# Altium footprint library HLib_connector_fp.PcbLib: 41 footprints (part 1 of 3)
Each footprint in its own frame and in the unit in brackets; x right, y up, seen from the top. Pads: shape width x height; smd on the part's side, far side on the other; paste and mask are expansions set on the pad; w line width, h text height; cw(c..) or ccw(c..) is an arc to the next point about the centre after c.
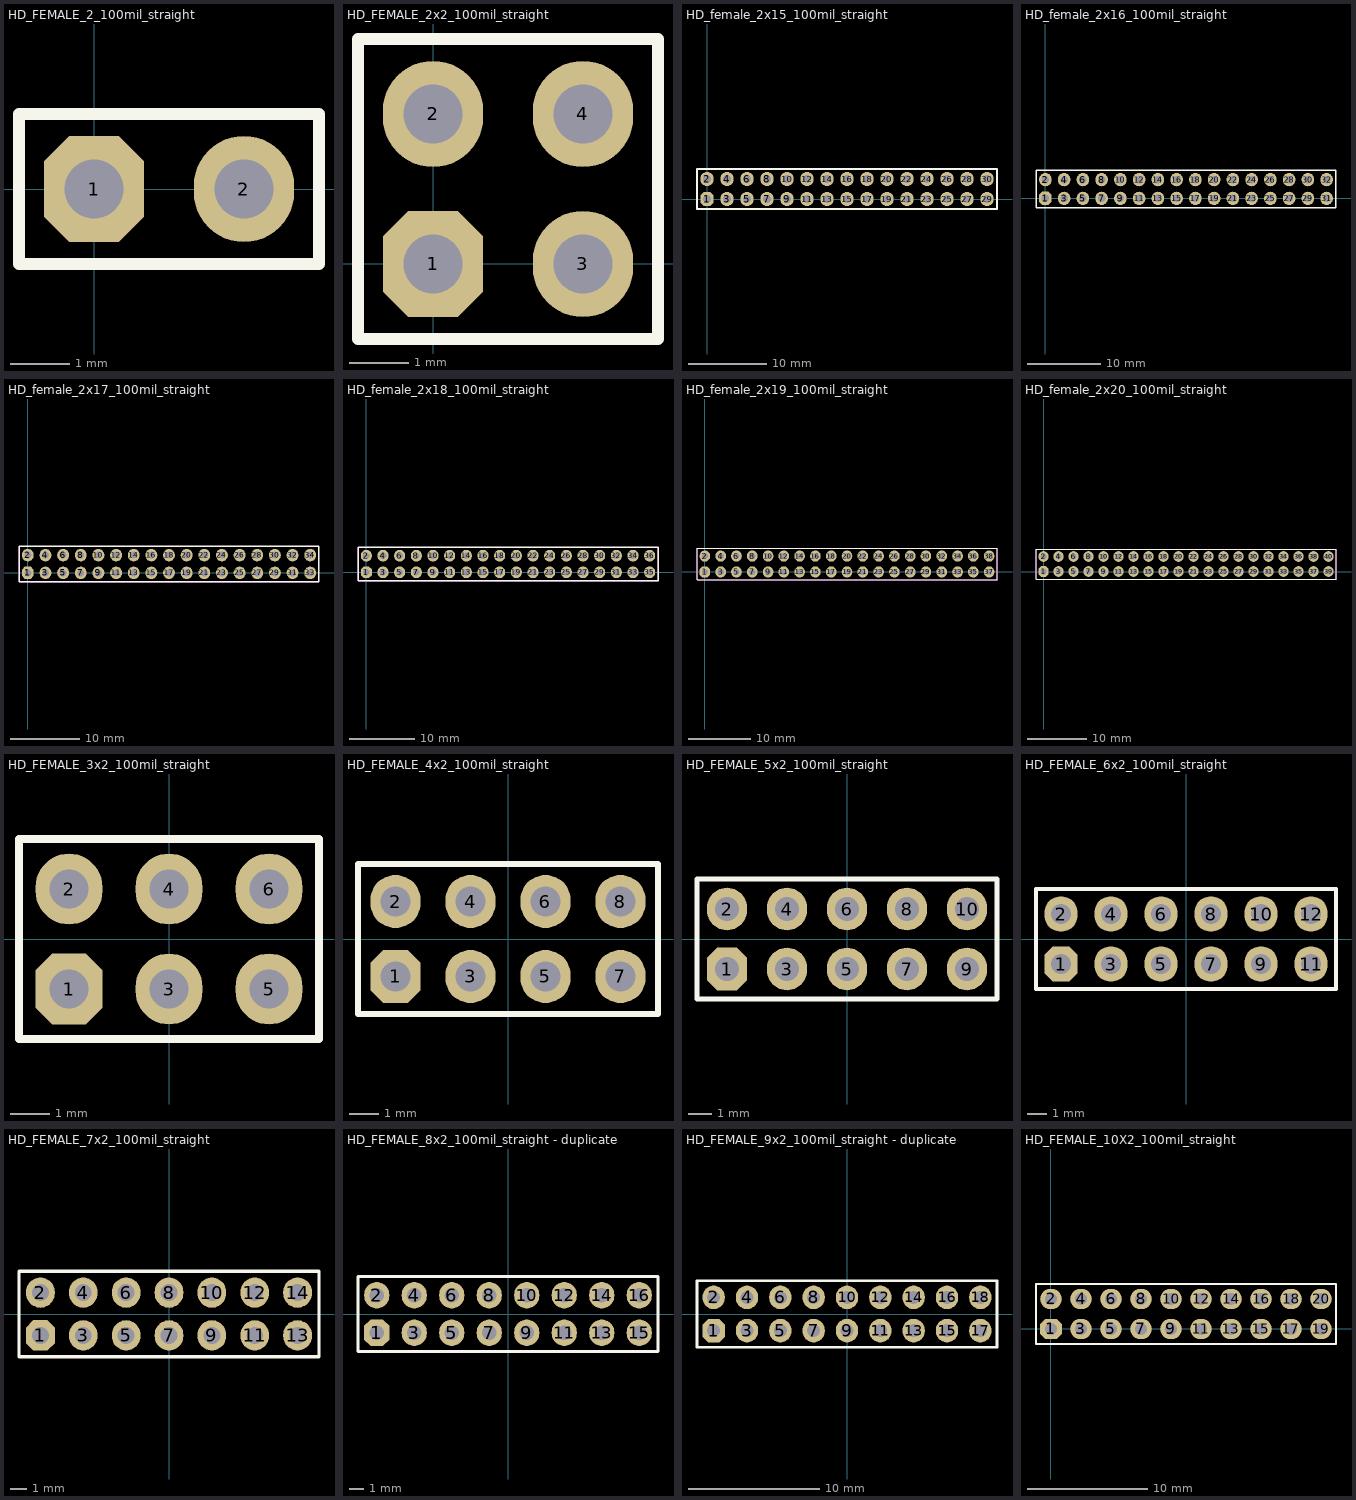
[diagram p0: the footprints below, top view; thin cyan lines are the x and y axes]

## HD_FEMALE_2_100mil_straight [mm]
pads (2):
  oct 1.7x1.8 hole 1: 1(0,0)
  oval 1.7x1.8 hole 1: 2(2.54,0)
Top Overlay:
  lines w0.2: -1.27,-1.27 -1.27,1.27 3.81,1.27 3.81,-1.27 -1.27,-1.27
Mechanical 15:
  lines w0.1: -1.27,-1.27 -1.27,1.27 3.81,1.27 3.81,-1.27 -1.27,-1.27
3D body: height 8, standoff 0, extent -1.27,0 1.27,1.27
3D body: height 8, standoff 0, extent 1.27,0 3.81,1.27
3D body: height 8, standoff 0, extent 1.27,-1.27 3.81,0
3D body: height 0, standoff -1, extent -0.254,-0.254 0.254,0.254
3D body: height 0, standoff -1, extent 2.286,-0.254 2.794,0.254
3D body: height 8, standoff 0, extent -1.27,-1.27 1.27,0

## HD_FEMALE_2x2_100mil_straight [mm]
pads (4):
  oct 1.7x1.8 hole 1: 1(0,0)
  oval 1.7x1.8 hole 1: 2(0,2.54) 3(2.54,0) 4(2.54,2.54)
Top Overlay:
  lines w0.2: -1.27,-1.27 3.81,-1.27 3.81,3.81 -1.27,3.81 -1.27,-1.27
Mechanical 15:
  lines w0.1: -1.27,-1.27 3.81,-1.27 3.81,3.81 -1.27,3.81 -1.27,-1.27
3D body: height 0, standoff -1, extent 2.286,-0.254 2.794,0.254
3D body: height 0, standoff -1, extent 2.286,2.286 2.794,2.794
3D body: height 0, standoff -1, extent -0.254,-0.254 0.254,0.254
3D body: height 0, standoff -1, extent -0.254,-0.254 0.254,0.254
3D body: height 0, standoff -1, extent 2.286,-0.254 2.794,0.254
3D body: height 0, standoff -1, extent -0.254,2.286 0.254,2.794
3D body: height 8, standoff 0, extent -1.27,-1.27 0,3.81
3D body: height 8, standoff 0, extent 1.27,-1.27 2.54,3.81
3D body: height 8, standoff 0, extent 2.54,-1.27 3.81,3.81
3D body: height 8, standoff 0, extent 0,-1.27 1.27,3.81

## HD_female_2x15_100mil_straight [mm]
pads (30):
  oct 1.7x1.8 hole 1: 1(0,0)
  oval 1.7x1.8 hole 1: 2(0,2.54) 3(2.54,0) 4(2.54,2.54) 5(5.08,0) 6(5.08,2.54) 7(7.62,0) 8(7.62,2.54) 9(10.16,0) 10(10.16,2.54) 11(12.7,0) 12(12.7,2.54) 13(15.24,0) 14(15.24,2.54) 15(17.78,0) 16(17.78,2.54) 17(20.32,0) 18(20.32,2.54) 19(22.86,0) 20(22.86,2.54) 21(25.4,0) 22(25.4,2.54) 23(27.94,0) 24(27.94,2.54) 25(30.48,0) 26(30.48,2.54) 27(33.02,0) 28(33.02,2.54) 29(35.56,0) 30(35.56,2.54)
Top Overlay:
  lines w0.2: -1.27,-1.27 -1.27,3.81 11.43,3.81 24.13,3.81 36.83,3.81 36.83,-1.27 24.13,-1.27 11.43,-1.27 -1.27,-1.27
Mechanical 15 keep-out:
  lines w0.1: -1.27,-1.27 -1.27,3.81 11.43,3.81 24.13,3.81 36.83,3.81 36.83,-1.27 24.13,-1.27 11.43,-1.27 -1.27,-1.27
3D body: height 8, standoff 0, extent 22.86,-1.27 24.13,3.81
3D body: height 8, standoff 0, extent 20.32,-1.27 21.59,3.81
3D body: height 8, standoff 0, extent 17.78,-1.27 19.05,3.81
3D body: height 8, standoff 0, extent 15.24,-1.27 16.51,3.81
3D body: height 8, standoff 0, extent 12.7,-1.27 13.97,3.81
3D body: height 8, standoff 0, extent 21.59,-1.27 22.86,3.81
3D body: height 8, standoff 0, extent 19.05,-1.27 20.32,3.81
3D body: height 8, standoff 0, extent 16.51,-1.27 17.78,3.81
3D body: height 8, standoff 0, extent 13.97,-1.27 15.24,3.81
3D body: height 8, standoff 0, extent 11.43,-1.27 12.7,3.81
3D body: height 0, standoff -1, extent 22.606,2.286 23.114,2.794
3D body: height 0, standoff -1, extent 22.606,-0.254 23.114,0.254
3D body: height 0, standoff -1, extent 20.066,2.286 20.574,2.794
3D body: height 0, standoff -1, extent 20.066,-0.254 20.574,0.254
3D body: height 0, standoff -1, extent 17.526,2.286 18.034,2.794
3D body: height 0, standoff -1, extent 17.526,-0.254 18.034,0.254
3D body: height 0, standoff -1, extent 14.986,2.286 15.494,2.794
3D body: height 0, standoff -1, extent 14.986,-0.254 15.494,0.254
3D body: height 0, standoff -1, extent 12.446,2.286 12.954,2.794
3D body: height 0, standoff -1, extent 12.446,-0.254 12.954,0.254
3D body: height 8, standoff 0, extent 10.16,-1.27 11.43,3.81
3D body: height 8, standoff 0, extent 7.62,-1.27 8.89,3.81
3D body: height 8, standoff 0, extent 5.08,-1.27 6.35,3.81
3D body: height 8, standoff 0, extent 2.54,-1.27 3.81,3.81
3D body: height 8, standoff 0, extent 0,-1.27 1.27,3.81
3D body: height 8, standoff 0, extent 8.89,-1.27 10.16,3.81
3D body: height 8, standoff 0, extent 6.35,-1.27 7.62,3.81
3D body: height 8, standoff 0, extent 3.81,-1.27 5.08,3.81
3D body: height 8, standoff 0, extent 1.27,-1.27 2.54,3.81
3D body: height 8, standoff 0, extent -1.27,-1.27 0,3.81
3D body: height 0, standoff -1, extent 9.906,2.286 10.414,2.794
3D body: height 0, standoff -1, extent 9.906,-0.254 10.414,0.254
3D body: height 0, standoff -1, extent 7.366,2.286 7.874,2.794
3D body: height 0, standoff -1, extent 7.366,-0.254 7.874,0.254
3D body: height 0, standoff -1, extent 4.826,2.286 5.334,2.794
3D body: height 0, standoff -1, extent 4.826,-0.254 5.334,0.254
3D body: height 0, standoff -1, extent 2.286,2.286 2.794,2.794
3D body: height 0, standoff -1, extent 2.286,-0.254 2.794,0.254
3D body: height 0, standoff -1, extent -0.254,2.286 0.254,2.794
3D body: height 0, standoff -1, extent -0.254,-0.254 0.254,0.254
3D body: height 0, standoff -1, extent 25.146,-0.254 25.654,0.254
3D body: height 0, standoff -1, extent 25.146,2.286 25.654,2.794
3D body: height 0, standoff -1, extent 27.686,-0.254 28.194,0.254
3D body: height 0, standoff -1, extent 27.686,2.286 28.194,2.794
3D body: height 0, standoff -1, extent 30.226,-0.254 30.734,0.254
3D body: height 0, standoff -1, extent 30.226,2.286 30.734,2.794
3D body: height 0, standoff -1, extent 32.766,-0.254 33.274,0.254
3D body: height 0, standoff -1, extent 32.766,2.286 33.274,2.794
3D body: height 0, standoff -1, extent 35.306,-0.254 35.814,0.254
3D body: height 0, standoff -1, extent 35.306,2.286 35.814,2.794
3D body: height 8, standoff 0, extent 24.13,-1.27 25.4,3.81
3D body: height 8, standoff 0, extent 26.67,-1.27 27.94,3.81
3D body: height 8, standoff 0, extent 29.21,-1.27 30.48,3.81
3D body: height 8, standoff 0, extent 31.75,-1.27 33.02,3.81
3D body: height 8, standoff 0, extent 34.29,-1.27 35.56,3.81
3D body: height 8, standoff 0, extent 25.4,-1.27 26.67,3.81
3D body: height 8, standoff 0, extent 27.94,-1.27 29.21,3.81
3D body: height 8, standoff 0, extent 30.48,-1.27 31.75,3.81
3D body: height 8, standoff 0, extent 33.02,-1.27 34.29,3.81
3D body: height 8, standoff 0, extent 35.56,-1.27 36.83,3.81

## HD_female_2x16_100mil_straight [mm]
pads (32):
  oct 1.7x1.8 hole 1: 1(0,0)
  oval 1.7x1.8 hole 1: 2(0,2.54) 3(2.54,0) 4(2.54,2.54) 5(5.08,0) 6(5.08,2.54) 7(7.62,0) 8(7.62,2.54) 9(10.16,0) 10(10.16,2.54) 11(12.7,0) 12(12.7,2.54) 13(15.24,0) 14(15.24,2.54) 15(17.78,0) 16(17.78,2.54) 17(20.32,0) 18(20.32,2.54) 19(22.86,0) 20(22.86,2.54) 21(25.4,0) 22(25.4,2.54) 23(27.94,0) 24(27.94,2.54) 25(30.48,0) 26(30.48,2.54) 27(33.02,0) 28(33.02,2.54) 29(35.56,0) 30(35.56,2.54) 31(38.1,0) 32(38.1,2.54)
Top Overlay:
  lines w0.2: -1.27,-1.27 11.43,-1.27 24.13,-1.27 39.37,-1.27 39.37,3.81 24.13,3.81 11.43,3.81 -1.27,3.81 -1.27,-1.27
3D body: height 8, standoff 0, extent 35.56,-1.27 36.83,3.81
3D body: height 8, standoff 0, extent 33.02,-1.27 34.29,3.81
3D body: height 8, standoff 0, extent 30.48,-1.27 31.75,3.81
3D body: height 8, standoff 0, extent 27.94,-1.27 29.21,3.81
3D body: height 8, standoff 0, extent 25.4,-1.27 26.67,3.81
3D body: height 8, standoff 0, extent 34.29,-1.27 35.56,3.81
3D body: height 8, standoff 0, extent 31.75,-1.27 33.02,3.81
3D body: height 8, standoff 0, extent 29.21,-1.27 30.48,3.81
3D body: height 8, standoff 0, extent 26.67,-1.27 27.94,3.81
3D body: height 8, standoff 0, extent 24.13,-1.27 25.4,3.81
3D body: height 0, standoff -1, extent 35.306,2.286 35.814,2.794
3D body: height 0, standoff -1, extent 35.306,-0.254 35.814,0.254
3D body: height 0, standoff -1, extent 32.766,2.286 33.274,2.794
3D body: height 0, standoff -1, extent 32.766,-0.254 33.274,0.254
3D body: height 0, standoff -1, extent 30.226,2.286 30.734,2.794
3D body: height 0, standoff -1, extent 30.226,-0.254 30.734,0.254
3D body: height 0, standoff -1, extent 27.686,2.286 28.194,2.794
3D body: height 0, standoff -1, extent 27.686,-0.254 28.194,0.254
3D body: height 0, standoff -1, extent 25.146,2.286 25.654,2.794
3D body: height 0, standoff -1, extent 25.146,-0.254 25.654,0.254
3D body: height 0, standoff -1, extent -0.254,-0.254 0.254,0.254
3D body: height 0, standoff -1, extent -0.254,2.286 0.254,2.794
3D body: height 0, standoff -1, extent 2.286,-0.254 2.794,0.254
3D body: height 0, standoff -1, extent 2.286,2.286 2.794,2.794
3D body: height 0, standoff -1, extent 4.826,-0.254 5.334,0.254
3D body: height 0, standoff -1, extent 4.826,2.286 5.334,2.794
3D body: height 0, standoff -1, extent 7.366,-0.254 7.874,0.254
3D body: height 0, standoff -1, extent 7.366,2.286 7.874,2.794
3D body: height 0, standoff -1, extent 9.906,-0.254 10.414,0.254
3D body: height 0, standoff -1, extent 9.906,2.286 10.414,2.794
3D body: height 8, standoff 0, extent -1.27,-1.27 0,3.81
3D body: height 8, standoff 0, extent 1.27,-1.27 2.54,3.81
3D body: height 8, standoff 0, extent 3.81,-1.27 5.08,3.81
3D body: height 8, standoff 0, extent 6.35,-1.27 7.62,3.81
3D body: height 8, standoff 0, extent 8.89,-1.27 10.16,3.81
3D body: height 8, standoff 0, extent 0,-1.27 1.27,3.81
3D body: height 8, standoff 0, extent 2.54,-1.27 3.81,3.81
3D body: height 8, standoff 0, extent 5.08,-1.27 6.35,3.81
3D body: height 8, standoff 0, extent 7.62,-1.27 8.89,3.81
3D body: height 8, standoff 0, extent 10.16,-1.27 11.43,3.81
3D body: height 0, standoff -1, extent 12.446,-0.254 12.954,0.254
3D body: height 0, standoff -1, extent 12.446,2.286 12.954,2.794
3D body: height 0, standoff -1, extent 14.986,-0.254 15.494,0.254
3D body: height 0, standoff -1, extent 14.986,2.286 15.494,2.794
3D body: height 0, standoff -1, extent 17.526,-0.254 18.034,0.254
3D body: height 0, standoff -1, extent 17.526,2.286 18.034,2.794
3D body: height 0, standoff -1, extent 20.066,-0.254 20.574,0.254
3D body: height 0, standoff -1, extent 20.066,2.286 20.574,2.794
3D body: height 0, standoff -1, extent 22.606,-0.254 23.114,0.254
3D body: height 0, standoff -1, extent 22.606,2.286 23.114,2.794
3D body: height 8, standoff 0, extent 11.43,-1.27 12.7,3.81
3D body: height 8, standoff 0, extent 13.97,-1.27 15.24,3.81
3D body: height 8, standoff 0, extent 16.51,-1.27 17.78,3.81
3D body: height 8, standoff 0, extent 19.05,-1.27 20.32,3.81
3D body: height 8, standoff 0, extent 21.59,-1.27 22.86,3.81
3D body: height 8, standoff 0, extent 12.7,-1.27 13.97,3.81
3D body: height 8, standoff 0, extent 15.24,-1.27 16.51,3.81
3D body: height 8, standoff 0, extent 17.78,-1.27 19.05,3.81
3D body: height 8, standoff 0, extent 20.32,-1.27 21.59,3.81
3D body: height 8, standoff 0, extent 22.86,-1.27 24.13,3.81
3D body: height 0, standoff -1, extent 37.846,-0.254 38.354,0.254
3D body: height 0, standoff -1, extent 37.846,2.286 38.354,2.794
3D body: height 8, standoff 0, extent 36.83,-1.27 38.1,3.81
3D body: height 8, standoff 0, extent 38.1,-1.27 39.37,3.81

## HD_female_2x17_100mil_straight [mm]
pads (34):
  oct 1.7x1.8 hole 1: 1(0,0)
  oval 1.7x1.8 hole 1: 2(0,2.54) 3(2.54,0) 4(2.54,2.54) 5(5.08,0) 6(5.08,2.54) 7(7.62,0) 8(7.62,2.54) 9(10.16,0) 10(10.16,2.54) 11(12.7,0) 12(12.7,2.54) 13(15.24,0) 14(15.24,2.54) 15(17.78,0) 16(17.78,2.54) 17(20.32,0) 18(20.32,2.54) 19(22.86,0) 20(22.86,2.54) 21(25.4,0) 22(25.4,2.54) 23(27.94,0) 24(27.94,2.54) 25(30.48,0) 26(30.48,2.54) 27(33.02,0) 28(33.02,2.54) 29(35.56,0) 30(35.56,2.54) 31(38.1,0) 32(38.1,2.54) 33(40.64,0) 34(40.64,2.54)
Top Overlay:
  lines w0.2: -1.27,-1.27 -1.27,3.81 11.43,3.81 24.13,3.81 41.91,3.81 41.91,-1.27 24.13,-1.27 11.43,-1.27 -1.27,-1.27
Mechanical 15 keep-out:
  lines w0.1: -1.27,-1.27 -1.27,3.81 11.43,3.81 24.13,3.81 41.91,3.81 41.91,-1.27 24.13,-1.27 11.43,-1.27 -1.27,-1.27
3D body: height 8, standoff 0, extent 22.86,-1.27 24.13,3.81
3D body: height 8, standoff 0, extent 20.32,-1.27 21.59,3.81
3D body: height 8, standoff 0, extent 17.78,-1.27 19.05,3.81
3D body: height 8, standoff 0, extent 15.24,-1.27 16.51,3.81
3D body: height 8, standoff 0, extent 12.7,-1.27 13.97,3.81
3D body: height 8, standoff 0, extent 21.59,-1.27 22.86,3.81
3D body: height 8, standoff 0, extent 19.05,-1.27 20.32,3.81
3D body: height 8, standoff 0, extent 16.51,-1.27 17.78,3.81
3D body: height 8, standoff 0, extent 13.97,-1.27 15.24,3.81
3D body: height 8, standoff 0, extent 11.43,-1.27 12.7,3.81
3D body: height 0, standoff -1, extent 22.606,2.286 23.114,2.794
3D body: height 0, standoff -1, extent 22.606,-0.254 23.114,0.254
3D body: height 0, standoff -1, extent 20.066,2.286 20.574,2.794
3D body: height 0, standoff -1, extent 20.066,-0.254 20.574,0.254
3D body: height 0, standoff -1, extent 17.526,2.286 18.034,2.794
3D body: height 0, standoff -1, extent 17.526,-0.254 18.034,0.254
3D body: height 0, standoff -1, extent 14.986,2.286 15.494,2.794
3D body: height 0, standoff -1, extent 14.986,-0.254 15.494,0.254
3D body: height 0, standoff -1, extent 12.446,2.286 12.954,2.794
3D body: height 0, standoff -1, extent 12.446,-0.254 12.954,0.254
3D body: height 8, standoff 0, extent 10.16,-1.27 11.43,3.81
3D body: height 8, standoff 0, extent 7.62,-1.27 8.89,3.81
3D body: height 8, standoff 0, extent 5.08,-1.27 6.35,3.81
3D body: height 8, standoff 0, extent 2.54,-1.27 3.81,3.81
3D body: height 8, standoff 0, extent 0,-1.27 1.27,3.81
3D body: height 8, standoff 0, extent 8.89,-1.27 10.16,3.81
3D body: height 8, standoff 0, extent 6.35,-1.27 7.62,3.81
3D body: height 8, standoff 0, extent 3.81,-1.27 5.08,3.81
3D body: height 8, standoff 0, extent 1.27,-1.27 2.54,3.81
3D body: height 8, standoff 0, extent -1.27,-1.27 0,3.81
3D body: height 0, standoff -1, extent 9.906,2.286 10.414,2.794
3D body: height 0, standoff -1, extent 9.906,-0.254 10.414,0.254
3D body: height 0, standoff -1, extent 7.366,2.286 7.874,2.794
3D body: height 0, standoff -1, extent 7.366,-0.254 7.874,0.254
3D body: height 0, standoff -1, extent 4.826,2.286 5.334,2.794
3D body: height 0, standoff -1, extent 4.826,-0.254 5.334,0.254
3D body: height 0, standoff -1, extent 2.286,2.286 2.794,2.794
3D body: height 0, standoff -1, extent 2.286,-0.254 2.794,0.254
3D body: height 0, standoff -1, extent -0.254,2.286 0.254,2.794
3D body: height 0, standoff -1, extent -0.254,-0.254 0.254,0.254
3D body: height 0, standoff -1, extent 25.146,-0.254 25.654,0.254
3D body: height 0, standoff -1, extent 25.146,2.286 25.654,2.794
3D body: height 0, standoff -1, extent 27.686,-0.254 28.194,0.254
3D body: height 0, standoff -1, extent 27.686,2.286 28.194,2.794
3D body: height 0, standoff -1, extent 30.226,-0.254 30.734,0.254
3D body: height 0, standoff -1, extent 30.226,2.286 30.734,2.794
3D body: height 0, standoff -1, extent 32.766,-0.254 33.274,0.254
3D body: height 0, standoff -1, extent 32.766,2.286 33.274,2.794
3D body: height 0, standoff -1, extent 35.306,-0.254 35.814,0.254
3D body: height 0, standoff -1, extent 35.306,2.286 35.814,2.794
3D body: height 8, standoff 0, extent 24.13,-1.27 25.4,3.81
3D body: height 8, standoff 0, extent 26.67,-1.27 27.94,3.81
3D body: height 8, standoff 0, extent 29.21,-1.27 30.48,3.81
3D body: height 8, standoff 0, extent 31.75,-1.27 33.02,3.81
3D body: height 8, standoff 0, extent 34.29,-1.27 35.56,3.81
3D body: height 8, standoff 0, extent 25.4,-1.27 26.67,3.81
3D body: height 8, standoff 0, extent 27.94,-1.27 29.21,3.81
3D body: height 8, standoff 0, extent 30.48,-1.27 31.75,3.81
3D body: height 8, standoff 0, extent 33.02,-1.27 34.29,3.81
3D body: height 8, standoff 0, extent 35.56,-1.27 36.83,3.81
3D body: height 8, standoff 0, extent 40.64,-1.27 41.91,3.81
3D body: height 8, standoff 0, extent 38.1,-1.27 39.37,3.81
3D body: height 8, standoff 0, extent 39.37,-1.27 40.64,3.81
3D body: height 8, standoff 0, extent 36.83,-1.27 38.1,3.81
3D body: height 0, standoff -1, extent 40.386,2.286 40.894,2.794
3D body: height 0, standoff -1, extent 40.386,-0.254 40.894,0.254
3D body: height 0, standoff -1, extent 37.846,2.286 38.354,2.794
3D body: height 0, standoff -1, extent 37.846,-0.254 38.354,0.254

## HD_female_2x18_100mil_straight [mm]
pads (36):
  oct 1.7x1.8 hole 1: 1(0,0)
  oval 1.7x1.8 hole 1: 2(0,2.54) 3(2.54,0) 4(2.54,2.54) 5(5.08,0) 6(5.08,2.54) 7(7.62,0) 8(7.62,2.54) 9(10.16,0) 10(10.16,2.54) 11(12.7,0) 12(12.7,2.54) 13(15.24,0) 14(15.24,2.54) 15(17.78,0) 16(17.78,2.54) 17(20.32,0) 18(20.32,2.54) 19(22.86,0) 20(22.86,2.54) 21(25.4,0) 22(25.4,2.54) 23(27.94,0) 24(27.94,2.54) 25(30.48,0) 26(30.48,2.54) 27(33.02,0) 28(33.02,2.54) 29(35.56,0) 30(35.56,2.54) 31(38.1,0) 32(38.1,2.54) 33(40.64,0) 34(40.64,2.54) 35(43.18,0) 36(43.18,2.54)
Top Overlay:
  lines w0.2: -1.27,-1.27 -1.27,3.81 11.43,3.81 24.13,3.81 44.45,3.81 44.45,-1.27 24.13,-1.27 11.43,-1.27 -1.27,-1.27
Mechanical 15 keep-out:
  lines w0.1: -1.27,-1.27 -1.27,3.81 11.43,3.81 24.13,3.81 44.45,3.81 44.45,-1.27 24.13,-1.27 11.43,-1.27 -1.27,-1.27
3D body: height 8, standoff 0, extent 22.86,-1.27 24.13,3.81
3D body: height 8, standoff 0, extent 20.32,-1.27 21.59,3.81
3D body: height 8, standoff 0, extent 17.78,-1.27 19.05,3.81
3D body: height 8, standoff 0, extent 15.24,-1.27 16.51,3.81
3D body: height 8, standoff 0, extent 12.7,-1.27 13.97,3.81
3D body: height 8, standoff 0, extent 21.59,-1.27 22.86,3.81
3D body: height 8, standoff 0, extent 19.05,-1.27 20.32,3.81
3D body: height 8, standoff 0, extent 16.51,-1.27 17.78,3.81
3D body: height 8, standoff 0, extent 13.97,-1.27 15.24,3.81
3D body: height 8, standoff 0, extent 11.43,-1.27 12.7,3.81
3D body: height 0, standoff -1, extent 22.606,2.286 23.114,2.794
3D body: height 0, standoff -1, extent 22.606,-0.254 23.114,0.254
3D body: height 0, standoff -1, extent 20.066,2.286 20.574,2.794
3D body: height 0, standoff -1, extent 20.066,-0.254 20.574,0.254
3D body: height 0, standoff -1, extent 17.526,2.286 18.034,2.794
3D body: height 0, standoff -1, extent 17.526,-0.254 18.034,0.254
3D body: height 0, standoff -1, extent 14.986,2.286 15.494,2.794
3D body: height 0, standoff -1, extent 14.986,-0.254 15.494,0.254
3D body: height 0, standoff -1, extent 12.446,2.286 12.954,2.794
3D body: height 0, standoff -1, extent 12.446,-0.254 12.954,0.254
3D body: height 8, standoff 0, extent 10.16,-1.27 11.43,3.81
3D body: height 8, standoff 0, extent 7.62,-1.27 8.89,3.81
3D body: height 8, standoff 0, extent 5.08,-1.27 6.35,3.81
3D body: height 8, standoff 0, extent 2.54,-1.27 3.81,3.81
3D body: height 8, standoff 0, extent 0,-1.27 1.27,3.81
3D body: height 8, standoff 0, extent 8.89,-1.27 10.16,3.81
3D body: height 8, standoff 0, extent 6.35,-1.27 7.62,3.81
3D body: height 8, standoff 0, extent 3.81,-1.27 5.08,3.81
3D body: height 8, standoff 0, extent 1.27,-1.27 2.54,3.81
3D body: height 8, standoff 0, extent -1.27,-1.27 0,3.81
3D body: height 0, standoff -1, extent 9.906,2.286 10.414,2.794
3D body: height 0, standoff -1, extent 9.906,-0.254 10.414,0.254
3D body: height 0, standoff -1, extent 7.366,2.286 7.874,2.794
3D body: height 0, standoff -1, extent 7.366,-0.254 7.874,0.254
3D body: height 0, standoff -1, extent 4.826,2.286 5.334,2.794
3D body: height 0, standoff -1, extent 4.826,-0.254 5.334,0.254
3D body: height 0, standoff -1, extent 2.286,2.286 2.794,2.794
3D body: height 0, standoff -1, extent 2.286,-0.254 2.794,0.254
3D body: height 0, standoff -1, extent -0.254,2.286 0.254,2.794
3D body: height 0, standoff -1, extent -0.254,-0.254 0.254,0.254
3D body: height 0, standoff -1, extent 25.146,-0.254 25.654,0.254
3D body: height 0, standoff -1, extent 25.146,2.286 25.654,2.794
3D body: height 0, standoff -1, extent 27.686,-0.254 28.194,0.254
3D body: height 0, standoff -1, extent 27.686,2.286 28.194,2.794
3D body: height 0, standoff -1, extent 30.226,-0.254 30.734,0.254
3D body: height 0, standoff -1, extent 30.226,2.286 30.734,2.794
3D body: height 0, standoff -1, extent 32.766,-0.254 33.274,0.254
3D body: height 0, standoff -1, extent 32.766,2.286 33.274,2.794
3D body: height 0, standoff -1, extent 35.306,-0.254 35.814,0.254
3D body: height 0, standoff -1, extent 35.306,2.286 35.814,2.794
3D body: height 8, standoff 0, extent 24.13,-1.27 25.4,3.81
3D body: height 8, standoff 0, extent 26.67,-1.27 27.94,3.81
3D body: height 8, standoff 0, extent 29.21,-1.27 30.48,3.81
3D body: height 8, standoff 0, extent 31.75,-1.27 33.02,3.81
3D body: height 8, standoff 0, extent 34.29,-1.27 35.56,3.81
3D body: height 8, standoff 0, extent 25.4,-1.27 26.67,3.81
3D body: height 8, standoff 0, extent 27.94,-1.27 29.21,3.81
3D body: height 8, standoff 0, extent 30.48,-1.27 31.75,3.81
3D body: height 8, standoff 0, extent 33.02,-1.27 34.29,3.81
3D body: height 8, standoff 0, extent 35.56,-1.27 36.83,3.81
3D body: height 8, standoff 0, extent 40.64,-1.27 41.91,3.81
3D body: height 8, standoff 0, extent 38.1,-1.27 39.37,3.81
3D body: height 8, standoff 0, extent 39.37,-1.27 40.64,3.81
3D body: height 8, standoff 0, extent 36.83,-1.27 38.1,3.81
3D body: height 0, standoff -1, extent 40.386,2.286 40.894,2.794
3D body: height 0, standoff -1, extent 40.386,-0.254 40.894,0.254
3D body: height 0, standoff -1, extent 37.846,2.286 38.354,2.794
3D body: height 0, standoff -1, extent 37.846,-0.254 38.354,0.254
3D body: height 0, standoff -1, extent 42.926,-0.254 43.434,0.254
3D body: height 0, standoff -1, extent 42.926,2.286 43.434,2.794
3D body: height 8, standoff 0, extent 41.91,-1.27 43.18,3.81
3D body: height 8, standoff 0, extent 43.18,-1.27 44.45,3.81

## HD_female_2x19_100mil_straight [mm]
pads (38):
  oct 1.7x1.8 hole 1: 1(0,0)
  oval 1.7x1.8 hole 1: 2(0,2.54) 3(2.54,0) 4(2.54,2.54) 5(5.08,0) 6(5.08,2.54) 7(7.62,0) 8(7.62,2.54) 9(10.16,0) 10(10.16,2.54) 11(12.7,0) 12(12.7,2.54) 13(15.24,0) 14(15.24,2.54) 15(17.78,0) 16(17.78,2.54) 17(20.32,0) 18(20.32,2.54) 19(22.86,0) 20(22.86,2.54) 21(25.4,0) 22(25.4,2.54) 23(27.94,0) 24(27.94,2.54) 25(30.48,0) 26(30.48,2.54) 27(33.02,0) 28(33.02,2.54) 29(35.56,0) 30(35.56,2.54) 31(38.1,0) 32(38.1,2.54) 33(40.64,0) 34(40.64,2.54) 35(43.18,0) 36(43.18,2.54) 37(45.72,0) 38(45.72,2.54)
Top Overlay:
  lines w0.2: -1.27,-1.27 -1.27,3.81 11.43,3.81 24.13,3.81 46.99,3.81 46.99,-1.27 24.13,-1.27 11.43,-1.27 -1.27,-1.27
Mechanical 15 keep-out:
  lines w0.1: -1.27,-1.27 -1.27,3.81 11.43,3.81 24.13,3.81 46.99,3.81 46.99,-1.27 24.13,-1.27 11.43,-1.27 -1.27,-1.27
3D body: height 8, standoff 0, extent 45.72,-1.27 46.99,3.81
3D body: height 8, standoff 0, extent 44.45,-1.27 45.72,3.81
3D body: height 8, standoff 0, extent 22.86,-1.27 24.13,3.81
3D body: height 8, standoff 0, extent 20.32,-1.27 21.59,3.81
3D body: height 8, standoff 0, extent 17.78,-1.27 19.05,3.81
3D body: height 8, standoff 0, extent 15.24,-1.27 16.51,3.81
3D body: height 8, standoff 0, extent 12.7,-1.27 13.97,3.81
3D body: height 8, standoff 0, extent 21.59,-1.27 22.86,3.81
3D body: height 8, standoff 0, extent 19.05,-1.27 20.32,3.81
3D body: height 8, standoff 0, extent 16.51,-1.27 17.78,3.81
3D body: height 8, standoff 0, extent 13.97,-1.27 15.24,3.81
3D body: height 8, standoff 0, extent 11.43,-1.27 12.7,3.81
3D body: height 0, standoff -1, extent 22.606,2.286 23.114,2.794
3D body: height 0, standoff -1, extent 22.606,-0.254 23.114,0.254
3D body: height 0, standoff -1, extent 20.066,2.286 20.574,2.794
3D body: height 0, standoff -1, extent 20.066,-0.254 20.574,0.254
3D body: height 0, standoff -1, extent 17.526,2.286 18.034,2.794
3D body: height 0, standoff -1, extent 17.526,-0.254 18.034,0.254
3D body: height 0, standoff -1, extent 14.986,2.286 15.494,2.794
3D body: height 0, standoff -1, extent 14.986,-0.254 15.494,0.254
3D body: height 0, standoff -1, extent 12.446,2.286 12.954,2.794
3D body: height 0, standoff -1, extent 12.446,-0.254 12.954,0.254
3D body: height 8, standoff 0, extent 10.16,-1.27 11.43,3.81
3D body: height 8, standoff 0, extent 7.62,-1.27 8.89,3.81
3D body: height 8, standoff 0, extent 5.08,-1.27 6.35,3.81
3D body: height 8, standoff 0, extent 2.54,-1.27 3.81,3.81
3D body: height 8, standoff 0, extent 0,-1.27 1.27,3.81
3D body: height 8, standoff 0, extent 8.89,-1.27 10.16,3.81
3D body: height 8, standoff 0, extent 6.35,-1.27 7.62,3.81
3D body: height 8, standoff 0, extent 3.81,-1.27 5.08,3.81
3D body: height 8, standoff 0, extent 1.27,-1.27 2.54,3.81
3D body: height 8, standoff 0, extent -1.27,-1.27 0,3.81
3D body: height 0, standoff -1, extent 9.906,2.286 10.414,2.794
3D body: height 0, standoff -1, extent 9.906,-0.254 10.414,0.254
3D body: height 0, standoff -1, extent 7.366,2.286 7.874,2.794
3D body: height 0, standoff -1, extent 7.366,-0.254 7.874,0.254
3D body: height 0, standoff -1, extent 4.826,2.286 5.334,2.794
3D body: height 0, standoff -1, extent 4.826,-0.254 5.334,0.254
3D body: height 0, standoff -1, extent 2.286,2.286 2.794,2.794
3D body: height 0, standoff -1, extent 2.286,-0.254 2.794,0.254
3D body: height 0, standoff -1, extent -0.254,2.286 0.254,2.794
3D body: height 0, standoff -1, extent -0.254,-0.254 0.254,0.254
3D body: height 0, standoff -1, extent 25.146,-0.254 25.654,0.254
3D body: height 0, standoff -1, extent 25.146,2.286 25.654,2.794
3D body: height 0, standoff -1, extent 27.686,-0.254 28.194,0.254
3D body: height 0, standoff -1, extent 27.686,2.286 28.194,2.794
3D body: height 0, standoff -1, extent 30.226,-0.254 30.734,0.254
3D body: height 0, standoff -1, extent 30.226,2.286 30.734,2.794
3D body: height 0, standoff -1, extent 32.766,-0.254 33.274,0.254
3D body: height 0, standoff -1, extent 32.766,2.286 33.274,2.794
3D body: height 0, standoff -1, extent 35.306,-0.254 35.814,0.254
3D body: height 0, standoff -1, extent 35.306,2.286 35.814,2.794
3D body: height 8, standoff 0, extent 24.13,-1.27 25.4,3.81
3D body: height 8, standoff 0, extent 26.67,-1.27 27.94,3.81
3D body: height 8, standoff 0, extent 29.21,-1.27 30.48,3.81
3D body: height 8, standoff 0, extent 31.75,-1.27 33.02,3.81
3D body: height 8, standoff 0, extent 34.29,-1.27 35.56,3.81
3D body: height 8, standoff 0, extent 25.4,-1.27 26.67,3.81
3D body: height 8, standoff 0, extent 27.94,-1.27 29.21,3.81
3D body: height 8, standoff 0, extent 30.48,-1.27 31.75,3.81
3D body: height 8, standoff 0, extent 33.02,-1.27 34.29,3.81
3D body: height 8, standoff 0, extent 35.56,-1.27 36.83,3.81
3D body: height 8, standoff 0, extent 40.64,-1.27 41.91,3.81
3D body: height 8, standoff 0, extent 38.1,-1.27 39.37,3.81
3D body: height 8, standoff 0, extent 39.37,-1.27 40.64,3.81
3D body: height 8, standoff 0, extent 36.83,-1.27 38.1,3.81
3D body: height 0, standoff -1, extent 40.386,2.286 40.894,2.794
3D body: height 0, standoff -1, extent 40.386,-0.254 40.894,0.254
3D body: height 0, standoff -1, extent 37.846,2.286 38.354,2.794
3D body: height 0, standoff -1, extent 37.846,-0.254 38.354,0.254
3D body: height 0, standoff -1, extent 42.926,-0.254 43.434,0.254
3D body: height 0, standoff -1, extent 42.926,2.286 43.434,2.794
3D body: height 8, standoff 0, extent 41.91,-1.27 43.18,3.81
3D body: height 8, standoff 0, extent 43.18,-1.27 44.45,3.81

## HD_female_2x20_100mil_straight [mm]
pads (40):
  oct 1.7x1.8 hole 1: 1(0,0)
  oval 1.7x1.8 hole 1: 2(0,2.54) 3(2.54,0) 4(2.54,2.54) 5(5.08,0) 6(5.08,2.54) 7(7.62,0) 8(7.62,2.54) 9(10.16,0) 10(10.16,2.54) 11(12.7,0) 12(12.7,2.54) 13(15.24,0) 14(15.24,2.54) 15(17.78,0) 16(17.78,2.54) 17(20.32,0) 18(20.32,2.54) 19(22.86,0) 20(22.86,2.54) 21(25.4,0) 22(25.4,2.54) 23(27.94,0) 24(27.94,2.54) 25(30.48,0) 26(30.48,2.54) 27(33.02,0) 28(33.02,2.54) 29(35.56,0) 30(35.56,2.54) 31(38.1,0) 32(38.1,2.54) 33(40.64,0) 34(40.64,2.54) 35(43.18,0) 36(43.18,2.54) 37(45.72,0) 38(45.72,2.54) 39(48.26,0) 40(48.26,2.54)
Top Overlay:
  lines w0.2: -1.27,-1.27 -1.27,3.81 11.43,3.81 24.13,3.81 49.53,3.81 49.53,-1.27 24.13,-1.27 11.43,-1.27 -1.27,-1.27
Mechanical 15 keep-out:
  lines w0.1: -1.27,-1.27 -1.27,3.81 11.43,3.81 24.13,3.81 49.53,3.81 49.53,-1.27 24.13,-1.27 11.43,-1.27 -1.27,-1.27
3D body: height 8, standoff 0, extent 46.99,-1.27 48.26,3.81
3D body: height 8, standoff 0, extent 48.26,-1.27 49.53,3.81
3D body: height 8, standoff 0, extent 45.72,-1.27 46.99,3.81
3D body: height 8, standoff 0, extent 44.45,-1.27 45.72,3.81
3D body: height 8, standoff 0, extent 22.86,-1.27 24.13,3.81
3D body: height 8, standoff 0, extent 20.32,-1.27 21.59,3.81
3D body: height 8, standoff 0, extent 17.78,-1.27 19.05,3.81
3D body: height 8, standoff 0, extent 15.24,-1.27 16.51,3.81
3D body: height 8, standoff 0, extent 12.7,-1.27 13.97,3.81
3D body: height 8, standoff 0, extent 21.59,-1.27 22.86,3.81
3D body: height 8, standoff 0, extent 19.05,-1.27 20.32,3.81
3D body: height 8, standoff 0, extent 16.51,-1.27 17.78,3.81
3D body: height 8, standoff 0, extent 13.97,-1.27 15.24,3.81
3D body: height 8, standoff 0, extent 11.43,-1.27 12.7,3.81
3D body: height 0, standoff -1, extent 22.606,2.286 23.114,2.794
3D body: height 0, standoff -1, extent 22.606,-0.254 23.114,0.254
3D body: height 0, standoff -1, extent 20.066,2.286 20.574,2.794
3D body: height 0, standoff -1, extent 20.066,-0.254 20.574,0.254
3D body: height 0, standoff -1, extent 17.526,2.286 18.034,2.794
3D body: height 0, standoff -1, extent 17.526,-0.254 18.034,0.254
3D body: height 0, standoff -1, extent 14.986,2.286 15.494,2.794
3D body: height 0, standoff -1, extent 14.986,-0.254 15.494,0.254
3D body: height 0, standoff -1, extent 12.446,2.286 12.954,2.794
3D body: height 0, standoff -1, extent 12.446,-0.254 12.954,0.254
3D body: height 8, standoff 0, extent 10.16,-1.27 11.43,3.81
3D body: height 8, standoff 0, extent 7.62,-1.27 8.89,3.81
3D body: height 8, standoff 0, extent 5.08,-1.27 6.35,3.81
3D body: height 8, standoff 0, extent 2.54,-1.27 3.81,3.81
3D body: height 8, standoff 0, extent 0,-1.27 1.27,3.81
3D body: height 8, standoff 0, extent 8.89,-1.27 10.16,3.81
3D body: height 8, standoff 0, extent 6.35,-1.27 7.62,3.81
3D body: height 8, standoff 0, extent 3.81,-1.27 5.08,3.81
3D body: height 8, standoff 0, extent 1.27,-1.27 2.54,3.81
3D body: height 8, standoff 0, extent -1.27,-1.27 0,3.81
3D body: height 0, standoff -1, extent 9.906,2.286 10.414,2.794
3D body: height 0, standoff -1, extent 9.906,-0.254 10.414,0.254
3D body: height 0, standoff -1, extent 7.366,2.286 7.874,2.794
3D body: height 0, standoff -1, extent 7.366,-0.254 7.874,0.254
3D body: height 0, standoff -1, extent 4.826,2.286 5.334,2.794
3D body: height 0, standoff -1, extent 4.826,-0.254 5.334,0.254
3D body: height 0, standoff -1, extent 2.286,2.286 2.794,2.794
3D body: height 0, standoff -1, extent 2.286,-0.254 2.794,0.254
3D body: height 0, standoff -1, extent -0.254,2.286 0.254,2.794
3D body: height 0, standoff -1, extent -0.254,-0.254 0.254,0.254
3D body: height 0, standoff -1, extent 25.146,-0.254 25.654,0.254
3D body: height 0, standoff -1, extent 25.146,2.286 25.654,2.794
3D body: height 0, standoff -1, extent 27.686,-0.254 28.194,0.254
3D body: height 0, standoff -1, extent 27.686,2.286 28.194,2.794
3D body: height 0, standoff -1, extent 30.226,-0.254 30.734,0.254
3D body: height 0, standoff -1, extent 30.226,2.286 30.734,2.794
3D body: height 0, standoff -1, extent 32.766,-0.254 33.274,0.254
3D body: height 0, standoff -1, extent 32.766,2.286 33.274,2.794
3D body: height 0, standoff -1, extent 35.306,-0.254 35.814,0.254
3D body: height 0, standoff -1, extent 35.306,2.286 35.814,2.794
3D body: height 8, standoff 0, extent 24.13,-1.27 25.4,3.81
3D body: height 8, standoff 0, extent 26.67,-1.27 27.94,3.81
3D body: height 8, standoff 0, extent 29.21,-1.27 30.48,3.81
3D body: height 8, standoff 0, extent 31.75,-1.27 33.02,3.81
3D body: height 8, standoff 0, extent 34.29,-1.27 35.56,3.81
3D body: height 8, standoff 0, extent 25.4,-1.27 26.67,3.81
3D body: height 8, standoff 0, extent 27.94,-1.27 29.21,3.81
3D body: height 8, standoff 0, extent 30.48,-1.27 31.75,3.81
3D body: height 8, standoff 0, extent 33.02,-1.27 34.29,3.81
3D body: height 8, standoff 0, extent 35.56,-1.27 36.83,3.81
3D body: height 8, standoff 0, extent 40.64,-1.27 41.91,3.81
3D body: height 8, standoff 0, extent 38.1,-1.27 39.37,3.81
3D body: height 8, standoff 0, extent 39.37,-1.27 40.64,3.81
3D body: height 8, standoff 0, extent 36.83,-1.27 38.1,3.81
3D body: height 0, standoff -1, extent 40.386,2.286 40.894,2.794
3D body: height 0, standoff -1, extent 40.386,-0.254 40.894,0.254
3D body: height 0, standoff -1, extent 37.846,2.286 38.354,2.794
3D body: height 0, standoff -1, extent 37.846,-0.254 38.354,0.254
3D body: height 0, standoff -1, extent 42.926,-0.254 43.434,0.254
3D body: height 0, standoff -1, extent 42.926,2.286 43.434,2.794
3D body: height 8, standoff 0, extent 41.91,-1.27 43.18,3.81
3D body: height 8, standoff 0, extent 43.18,-1.27 44.45,3.81

## HD_FEMALE_3x2_100mil_straight [mm]
pads (6):
  oct 1.7x1.8 hole 1: 1(-2.54,-1.27)
  oval 1.7x1.8 hole 1: 2(-2.54,1.27) 3(0,-1.27) 4(0,1.27) 5(2.54,-1.27) 6(2.54,1.27)
Top Overlay:
  lines w0.2: -3.81,-2.54 3.81,-2.54 3.81,2.54 -3.81,2.54 -3.81,-2.54
Mechanical 15 keep-out:
  lines w0.1: -3.81,-2.54 3.81,-2.54 3.81,2.54 -3.81,2.54 -3.81,-2.54
3D body: height 8, standoff 0, extent -2.54,-2.54 -1.27,2.54
3D body: height 8, standoff 0, extent 0,-2.54 1.27,2.54
3D body: height 8, standoff 0, extent -3.81,-2.54 -2.54,2.54
3D body: height 8, standoff 0, extent -1.27,-2.54 0,2.54
3D body: height 8, standoff 0, extent 1.27,-2.54 2.54,2.54
3D body: height 8, standoff 0, extent 2.54,-2.54 3.81,2.54
3D body: height 0, standoff -1, extent 2.286,1.016 2.794,1.524
3D body: height 0, standoff -1, extent -0.254,1.016 0.254,1.524
3D body: height 0, standoff -1, extent 2.286,-1.524 2.794,-1.016
3D body: height 0, standoff -1, extent -0.254,-1.524 0.254,-1.016
3D body: height 0, standoff -1, extent -2.794,-1.524 -2.286,-1.016
3D body: height 0, standoff -1, extent -2.794,1.016 -2.286,1.524

## HD_FEMALE_4x2_100mil_straight [mm]
pads (8):
  oct 1.7x1.8 hole 1: 1(-3.81,-1.27)
  oval 1.7x1.8 hole 1: 2(-3.81,1.27) 3(-1.27,-1.27) 4(-1.27,1.27) 5(1.27,-1.27) 6(1.27,1.27) 7(3.81,-1.27) 8(3.81,1.27)
Top Overlay:
  lines w0.2: -5.08,-2.54 5.08,-2.54 5.08,2.54 -5.08,2.54 -5.08,-2.54
Mechanical 15 keep-out:
  lines w0.1: -5.08,-2.54 -5.08,2.54 5.08,2.54 5.08,-2.54 -5.08,-2.54
3D body: height 8, standoff 0, extent 3.81,-2.54 5.08,2.54
3D body: height 8, standoff 0, extent 1.27,-2.54 2.54,2.54
3D body: height 8, standoff 0, extent -1.27,-2.54 0,2.54
3D body: height 8, standoff 0, extent -3.81,-2.54 -2.54,2.54
3D body: height 8, standoff 0, extent 2.54,-2.54 3.81,2.54
3D body: height 8, standoff 0, extent 0,-2.54 1.27,2.54
3D body: height 8, standoff 0, extent -2.54,-2.54 -1.27,2.54
3D body: height 8, standoff 0, extent -5.08,-2.54 -3.81,2.54
3D body: height 0, standoff -1, extent 3.556,1.016 4.064,1.524
3D body: height 0, standoff -1, extent 1.016,1.016 1.524,1.524
3D body: height 0, standoff -1, extent -1.524,1.016 -1.016,1.524
3D body: height 0, standoff -1, extent -4.064,1.016 -3.556,1.524
3D body: height 0, standoff -1, extent 3.556,-1.524 4.064,-1.016
3D body: height 0, standoff -1, extent 1.016,-1.524 1.524,-1.016
3D body: height 0, standoff -1, extent -1.524,-1.524 -1.016,-1.016
3D body: height 0, standoff -1, extent -4.064,-1.524 -3.556,-1.016

## HD_FEMALE_5x2_100mil_straight [mm]
pads (10):
  oct 1.7x1.8 hole 1: 1(-5.08,-1.27)
  oval 1.7x1.8 hole 1: 2(-5.08,1.27) 3(-2.54,-1.27) 4(-2.54,1.27) 5(0,-1.27) 6(0,1.27) 7(2.54,-1.27) 8(2.54,1.27) 9(5.08,-1.27) 10(5.08,1.27)
Top Overlay:
  lines w0.2: -6.35,-2.54 -6.35,2.54 6.35,2.54 6.35,-2.54 -6.35,-2.54
Mechanical 15 keep-out:
  lines w0.1: -6.35,-2.54 -6.35,2.54 6.35,2.54 6.35,-2.54 -6.35,-2.54
3D body: height 8, standoff 0, extent 5.08,-2.54 6.35,2.54
3D body: height 8, standoff 0, extent 2.54,-2.54 3.81,2.54
3D body: height 8, standoff 0, extent 0,-2.54 1.27,2.54
3D body: height 8, standoff 0, extent -2.54,-2.54 -1.27,2.54
3D body: height 8, standoff 0, extent -5.08,-2.54 -3.81,2.54
3D body: height 8, standoff 0, extent 3.81,-2.54 5.08,2.54
3D body: height 8, standoff 0, extent 1.27,-2.54 2.54,2.54
3D body: height 8, standoff 0, extent -1.27,-2.54 0,2.54
3D body: height 8, standoff 0, extent -3.81,-2.54 -2.54,2.54
3D body: height 8, standoff 0, extent -6.35,-2.54 -5.08,2.54
3D body: height 0, standoff -1, extent 4.826,1.016 5.334,1.524
3D body: height 0, standoff -1, extent 4.826,-1.524 5.334,-1.016
3D body: height 0, standoff -1, extent 2.286,1.016 2.794,1.524
3D body: height 0, standoff -1, extent 2.286,-1.524 2.794,-1.016
3D body: height 0, standoff -1, extent -0.254,1.016 0.254,1.524
3D body: height 0, standoff -1, extent -0.254,-1.524 0.254,-1.016
3D body: height 0, standoff -1, extent -2.794,1.016 -2.286,1.524
3D body: height 0, standoff -1, extent -2.794,-1.524 -2.286,-1.016
3D body: height 0, standoff -1, extent -5.334,1.016 -4.826,1.524
3D body: height 0, standoff -1, extent -5.334,-1.524 -4.826,-1.016

## HD_FEMALE_6x2_100mil_straight [mm]
pads (12):
  oct 1.7x1.8 hole 1: 1(-6.35,-1.27)
  oval 1.7x1.8 hole 1: 2(-6.35,1.27) 3(-3.81,-1.27) 4(-3.81,1.27) 5(-1.27,-1.27) 6(-1.27,1.27) 7(1.27,-1.27) 8(1.27,1.27) 9(3.81,-1.27) 10(3.81,1.27) 11(6.35,-1.27) 12(6.35,1.27)
Top Overlay:
  lines w0.2: -7.62,-2.54 7.62,-2.54 7.62,2.54 -7.62,2.54 -7.62,-2.54
Mechanical 15 keep-out:
  lines w0.1: -7.62,-2.54 7.62,-2.54 7.62,2.54 -7.62,2.54 -7.62,-2.54
3D body: height 0, standoff -1, extent -6.604,-1.524 -6.096,-1.016
3D body: height 0, standoff -1, extent -6.604,1.016 -6.096,1.524
3D body: height 0, standoff -1, extent -4.064,-1.524 -3.556,-1.016
3D body: height 0, standoff -1, extent -4.064,1.016 -3.556,1.524
3D body: height 0, standoff -1, extent -1.524,-1.524 -1.016,-1.016
3D body: height 0, standoff -1, extent -1.524,1.016 -1.016,1.524
3D body: height 0, standoff -1, extent 1.016,-1.524 1.524,-1.016
3D body: height 0, standoff -1, extent 1.016,1.016 1.524,1.524
3D body: height 0, standoff -1, extent 3.556,-1.524 4.064,-1.016
3D body: height 0, standoff -1, extent 3.556,1.016 4.064,1.524
3D body: height 0, standoff -1, extent 6.096,-1.524 6.604,-1.016
3D body: height 0, standoff -1, extent 6.096,1.016 6.604,1.524
3D body: height 8, standoff 0, extent -7.62,-2.54 -6.35,2.54
3D body: height 8, standoff 0, extent -5.08,-2.54 -3.81,2.54
3D body: height 8, standoff 0, extent -2.54,-2.54 -1.27,2.54
3D body: height 8, standoff 0, extent 0,-2.54 1.27,2.54
3D body: height 8, standoff 0, extent 2.54,-2.54 3.81,2.54
3D body: height 8, standoff 0, extent 5.08,-2.54 6.35,2.54
3D body: height 8, standoff 0, extent -6.35,-2.54 -5.08,2.54
3D body: height 8, standoff 0, extent -3.81,-2.54 -2.54,2.54
3D body: height 8, standoff 0, extent -1.27,-2.54 0,2.54
3D body: height 8, standoff 0, extent 1.27,-2.54 2.54,2.54
3D body: height 8, standoff 0, extent 3.81,-2.54 5.08,2.54
3D body: height 8, standoff 0, extent 6.35,-2.54 7.62,2.54

## HD_FEMALE_7x2_100mil_straight [mm]
pads (14):
  oct 1.7x1.8 hole 1: 1(-7.62,-1.27)
  oval 1.7x1.8 hole 1: 2(-7.62,1.27) 3(-5.08,-1.27) 4(-5.08,1.27) 5(-2.54,-1.27) 6(-2.54,1.27) 7(0,-1.27) 8(0,1.27) 9(2.54,-1.27) 10(2.54,1.27) 11(5.08,-1.27) 12(5.08,1.27) 13(7.62,-1.27) 14(7.62,1.27)
Top Overlay:
  lines w0.2: -8.89,-2.54 8.89,-2.54 8.89,2.54 -8.89,2.54 -8.89,-2.54
Mechanical 15 keep-out:
  lines w0.1: -8.89,-2.54 8.89,-2.54 8.89,2.54 -8.89,2.54 -8.89,-2.54
3D body: height 0, standoff -1, extent -5.334,-1.524 -4.826,-1.016
3D body: height 0, standoff -1, extent -7.874,-1.524 -7.366,-1.016
3D body: height 0, standoff -1, extent -7.874,1.016 -7.366,1.524
3D body: height 0, standoff -1, extent -5.334,1.016 -4.826,1.524
3D body: height 0, standoff -1, extent -2.794,1.016 -2.286,1.524
3D body: height 0, standoff -1, extent -2.794,-1.524 -2.286,-1.016
3D body: height 0, standoff -1, extent -0.254,-1.524 0.254,-1.016
3D body: height 0, standoff -1, extent -0.254,1.016 0.254,1.524
3D body: height 0, standoff -1, extent 2.286,-1.524 2.794,-1.016
3D body: height 0, standoff -1, extent 2.286,1.016 2.794,1.524
3D body: height 0, standoff -1, extent 4.826,-1.524 5.334,-1.016
3D body: height 0, standoff -1, extent 4.826,1.016 5.334,1.524
3D body: height 0, standoff -1, extent 7.366,-1.524 7.874,-1.016
3D body: height 0, standoff -1, extent 7.366,1.016 7.874,1.524
3D body: height 8, standoff 0, extent -8.89,-2.54 -7.62,2.54
3D body: height 8, standoff 0, extent -6.35,-2.54 -5.08,2.54
3D body: height 8, standoff 0, extent -3.81,-2.54 -2.54,2.54
3D body: height 8, standoff 0, extent -1.27,-2.54 0,2.54
3D body: height 8, standoff 0, extent 1.27,-2.54 2.54,2.54
3D body: height 8, standoff 0, extent 3.81,-2.54 5.08,2.54
3D body: height 8, standoff 0, extent 6.35,-2.54 7.62,2.54
3D body: height 8, standoff 0, extent -7.62,-2.54 -6.35,2.54
3D body: height 8, standoff 0, extent -5.08,-2.54 -3.81,2.54
3D body: height 8, standoff 0, extent -2.54,-2.54 -1.27,2.54
3D body: height 8, standoff 0, extent 0,-2.54 1.27,2.54
3D body: height 8, standoff 0, extent 2.54,-2.54 3.81,2.54
3D body: height 8, standoff 0, extent 5.08,-2.54 6.35,2.54
3D body: height 8, standoff 0, extent 7.62,-2.54 8.89,2.54

## HD_FEMALE_8x2_100mil_straight - duplicate [mm]
pads (16):
  oct 1.7x1.8 hole 1: 1(-8.89,-1.27)
  oval 1.7x1.8 hole 1: 2(-8.89,1.27) 3(-6.35,-1.27) 4(-6.35,1.27) 5(-3.81,-1.27) 6(-3.81,1.27) 7(-1.27,-1.27) 8(-1.27,1.27) 9(1.27,-1.27) 10(1.27,1.27) 11(3.81,-1.27) 12(3.81,1.27) 13(6.35,-1.27) 14(6.35,1.27) 15(8.89,-1.27) 16(8.89,1.27)
Top Overlay:
  lines w0.2: -10.16,-2.54 10.16,-2.54 10.16,2.54 -10.16,2.54 -10.16,-2.54
Mechanical 15 keep-out:
  lines w0.1: -10.16,-2.54 10.16,-2.54 10.16,2.54 -10.16,2.54 -10.16,-2.54
3D body: height 0, standoff -1, extent -9.144,1.016 -8.636,1.524
3D body: height 0, standoff -1, extent -9.144,-1.524 -8.636,-1.016
3D body: height 0, standoff -1, extent -6.604,-1.524 -6.096,-1.016
3D body: height 0, standoff -1, extent -6.604,1.016 -6.096,1.524
3D body: height 0, standoff -1, extent -4.064,-1.524 -3.556,-1.016
3D body: height 0, standoff -1, extent -4.064,1.016 -3.556,1.524
3D body: height 0, standoff -1, extent -1.524,-1.524 -1.016,-1.016
3D body: height 0, standoff -1, extent -1.524,1.016 -1.016,1.524
3D body: height 0, standoff -1, extent 1.016,-1.524 1.524,-1.016
3D body: height 0, standoff -1, extent 1.016,1.016 1.524,1.524
3D body: height 0, standoff -1, extent 3.556,-1.524 4.064,-1.016
3D body: height 0, standoff -1, extent 3.556,1.016 4.064,1.524
3D body: height 0, standoff -1, extent 6.096,-1.524 6.604,-1.016
3D body: height 0, standoff -1, extent 6.096,1.016 6.604,1.524
3D body: height 0, standoff -1, extent 8.636,-1.524 9.144,-1.016
3D body: height 0, standoff -1, extent 8.636,1.016 9.144,1.524
3D body: height 8, standoff 0, extent -10.16,-2.54 -8.89,2.54
3D body: height 8, standoff 0, extent -7.62,-2.54 -6.35,2.54
3D body: height 8, standoff 0, extent -5.08,-2.54 -3.81,2.54
3D body: height 8, standoff 0, extent -2.54,-2.54 -1.27,2.54
3D body: height 8, standoff 0, extent 0,-2.54 1.27,2.54
3D body: height 8, standoff 0, extent 2.54,-2.54 3.81,2.54
3D body: height 8, standoff 0, extent 5.08,-2.54 6.35,2.54
3D body: height 8, standoff 0, extent 7.62,-2.54 8.89,2.54
3D body: height 8, standoff 0, extent -8.89,-2.54 -7.62,2.54
3D body: height 8, standoff 0, extent -6.35,-2.54 -5.08,2.54
3D body: height 8, standoff 0, extent -3.81,-2.54 -2.54,2.54
3D body: height 8, standoff 0, extent -1.27,-2.54 0,2.54
3D body: height 8, standoff 0, extent 1.27,-2.54 2.54,2.54
3D body: height 8, standoff 0, extent 3.81,-2.54 5.08,2.54
3D body: height 8, standoff 0, extent 6.35,-2.54 7.62,2.54
3D body: height 8, standoff 0, extent 8.89,-2.54 10.16,2.54

## HD_FEMALE_9x2_100mil_straight - duplicate [mm]
pads (18):
  oct 1.7x1.8 hole 1: 1(-10.16,-1.27)
  oval 1.7x1.8 hole 1: 2(-10.16,1.27) 3(-7.62,-1.27) 4(-7.62,1.27) 5(-5.08,-1.27) 6(-5.08,1.27) 7(-2.54,-1.27) 8(-2.54,1.27) 9(0,-1.27) 10(0,1.27) 11(2.54,-1.27) 12(2.54,1.27) 13(5.08,-1.27) 14(5.08,1.27) 15(7.62,-1.27) 16(7.62,1.27) 17(10.16,-1.27) 18(10.16,1.27)
Top Overlay:
  lines w0.2: -11.43,-2.54 11.43,-2.54 11.43,2.54 -11.43,2.54 -11.43,-2.54
Mechanical 15 keep-out:
  lines w0.1: -11.43,-2.54 11.43,-2.54 11.43,2.54 -11.43,2.54 -11.43,-2.54
3D body: height 0, standoff -1, extent -10.414,-1.524 -9.906,-1.016
3D body: height 0, standoff -1, extent -10.414,1.016 -9.906,1.524
3D body: height 0, standoff -1, extent -7.874,-1.524 -7.366,-1.016
3D body: height 0, standoff -1, extent -7.874,1.016 -7.366,1.524
3D body: height 0, standoff -1, extent -5.334,-1.524 -4.826,-1.016
3D body: height 0, standoff -1, extent -5.334,1.016 -4.826,1.524
3D body: height 0, standoff -1, extent -2.794,-1.524 -2.286,-1.016
3D body: height 0, standoff -1, extent -2.794,1.016 -2.286,1.524
3D body: height 0, standoff -1, extent -0.254,-1.524 0.254,-1.016
3D body: height 0, standoff -1, extent -0.254,1.016 0.254,1.524
3D body: height 0, standoff -1, extent 2.286,-1.524 2.794,-1.016
3D body: height 0, standoff -1, extent 2.286,1.016 2.794,1.524
3D body: height 0, standoff -1, extent 4.826,1.016 5.334,1.524
3D body: height 0, standoff -1, extent 4.826,-1.524 5.334,-1.016
3D body: height 0, standoff -1, extent 7.366,-1.524 7.874,-1.016
3D body: height 0, standoff -1, extent 9.906,-1.524 10.414,-1.016
3D body: height 0, standoff -1, extent 7.366,1.016 7.874,1.524
3D body: height 0, standoff -1, extent 9.906,1.016 10.414,1.524
3D body: height 8, standoff 0, extent -11.43,-2.54 -10.16,2.54
3D body: height 8, standoff 0, extent -8.89,-2.54 -7.62,2.54
3D body: height 8, standoff 0, extent -6.35,-2.54 -5.08,2.54
3D body: height 8, standoff 0, extent -3.81,-2.54 -2.54,2.54
3D body: height 8, standoff 0, extent -1.27,-2.54 0,2.54
3D body: height 8, standoff 0, extent 1.27,-2.54 2.54,2.54
3D body: height 8, standoff 0, extent 3.81,-2.54 5.08,2.54
3D body: height 8, standoff 0, extent 6.35,-2.54 7.62,2.54
3D body: height 8, standoff 0, extent 8.89,-2.54 10.16,2.54
3D body: height 8, standoff 0, extent -10.16,-2.54 -8.89,2.54
3D body: height 8, standoff 0, extent -7.62,-2.54 -6.35,2.54
3D body: height 8, standoff 0, extent -5.08,-2.54 -3.81,2.54
3D body: height 8, standoff 0, extent -2.54,-2.54 -1.27,2.54
3D body: height 8, standoff 0, extent 0,-2.54 1.27,2.54
3D body: height 8, standoff 0, extent 2.54,-2.54 3.81,2.54
3D body: height 8, standoff 0, extent 5.08,-2.54 6.35,2.54
3D body: height 8, standoff 0, extent 7.62,-2.54 8.89,2.54
3D body: height 8, standoff 0, extent 10.16,-2.54 11.43,2.54

## HD_FEMALE_10X2_100mil_straight [mm]
pads (20):
  oct 1.8x1.7 hole 1: 1(0,0)
  oval 1.8x1.7 hole 1: 2(0,2.5) 3(2.5,0) 4(2.5,2.5) 5(5,0) 6(5,2.5) 7(7.5,0) 8(7.5,2.5) 9(10,0) 10(10,2.5) 11(12.5,0) 12(12.5,2.5) 13(15,0) 14(15,2.5) 15(17.5,0) 16(17.5,2.5) 17(20,0) 18(20,2.5) 19(22.5,0) 20(22.5,2.5)
Top Overlay:
  lines w0.2: -1.25,-1.25 23.75,-1.25 23.75,3.75 -1.25,3.75 -1.25,-1.25
Mechanical 15:
  lines w0.1: -1.25,-1.25 23.75,-1.25 23.75,3.75 -1.25,3.75 -1.25,-1.25
3D body: height 0, standoff -1, extent -0.25,-0.25 0.25,0.25
3D body: height 8, standoff 0, extent 0,-1.25 1.25,3.75
3D body: height 8, standoff 0, extent -1.25,-1.25 0,3.75
3D body: height 8, standoff 0, extent 2.5,-1.25 3.75,3.75
3D body: height 8, standoff 0, extent 1.25,-1.25 2.5,3.75
3D body: height 8, standoff 0, extent 5,-1.25 6.25,3.75
3D body: height 8, standoff 0, extent 3.75,-1.25 5,3.75
3D body: height 8, standoff 0, extent 7.5,-1.25 8.75,3.75
3D body: height 8, standoff 0, extent 6.25,-1.25 7.5,3.75
3D body: height 8, standoff 0, extent 10,-1.25 11.25,3.75
3D body: height 8, standoff 0, extent 8.75,-1.25 10,3.75
3D body: height 8, standoff 0, extent 12.5,-1.25 13.75,3.75
3D body: height 8, standoff 0, extent 11.25,-1.25 12.5,3.75
3D body: height 8, standoff 0, extent 15,-1.25 16.25,3.75
3D body: height 8, standoff 0, extent 13.75,-1.25 15,3.75
3D body: height 8, standoff 0, extent 17.5,-1.25 18.75,3.75
3D body: height 8, standoff 0, extent 16.25,-1.25 17.5,3.75
3D body: height 8, standoff 0, extent 20,-1.25 21.25,3.75
3D body: height 8, standoff 0, extent 18.75,-1.25 20,3.75
3D body: height 8, standoff 0, extent 22.5,-1.25 23.75,3.75
3D body: height 8, standoff 0, extent 21.25,-1.25 22.5,3.75
3D body: height 0, standoff -1, extent -0.25,2.25 0.25,2.75
3D body: height 0, standoff -1, extent 2.25,2.25 2.75,2.75
3D body: height 0, standoff -1, extent 2.25,-0.25 2.75,0.25
3D body: height 0, standoff -1, extent 4.75,2.25 5.25,2.75
3D body: height 0, standoff -1, extent 4.75,-0.25 5.25,0.25
3D body: height 0, standoff -1, extent 7.25,2.25 7.75,2.75
3D body: height 0, standoff -1, extent 7.25,-0.25 7.75,0.25
3D body: height 0, standoff -1, extent 9.75,2.25 10.25,2.75
3D body: height 0, standoff -1, extent 9.75,-0.25 10.25,0.25
3D body: height 0, standoff -1, extent 12.25,2.25 12.75,2.75
3D body: height 0, standoff -1, extent 12.25,-0.25 12.75,0.25
3D body: height 0, standoff -1, extent 14.75,2.25 15.25,2.75
3D body: height 0, standoff -1, extent 14.75,-0.25 15.25,0.25
3D body: height 0, standoff -1, extent 17.25,2.25 17.75,2.75
3D body: height 0, standoff -1, extent 17.25,-0.25 17.75,0.25
3D body: height 0, standoff -1, extent 19.75,2.25 20.25,2.75
3D body: height 0, standoff -1, extent 19.75,-0.25 20.25,0.25
3D body: height 0, standoff -1, extent 22.25,2.25 22.75,2.75
3D body: height 0, standoff -1, extent 22.25,-0.25 22.75,0.25